# Altium footprint library 钽电容.PcbLib: 6 footprints
Each footprint in its own frame and in the unit in brackets; x right, y up, seen from the top. Pads: shape width x height; smd on the part's side, far side on the other; paste and mask are expansions set on the pad; w line width, h text height; cw(c..) or ccw(c..) is an arc to the next point about the centre after c.
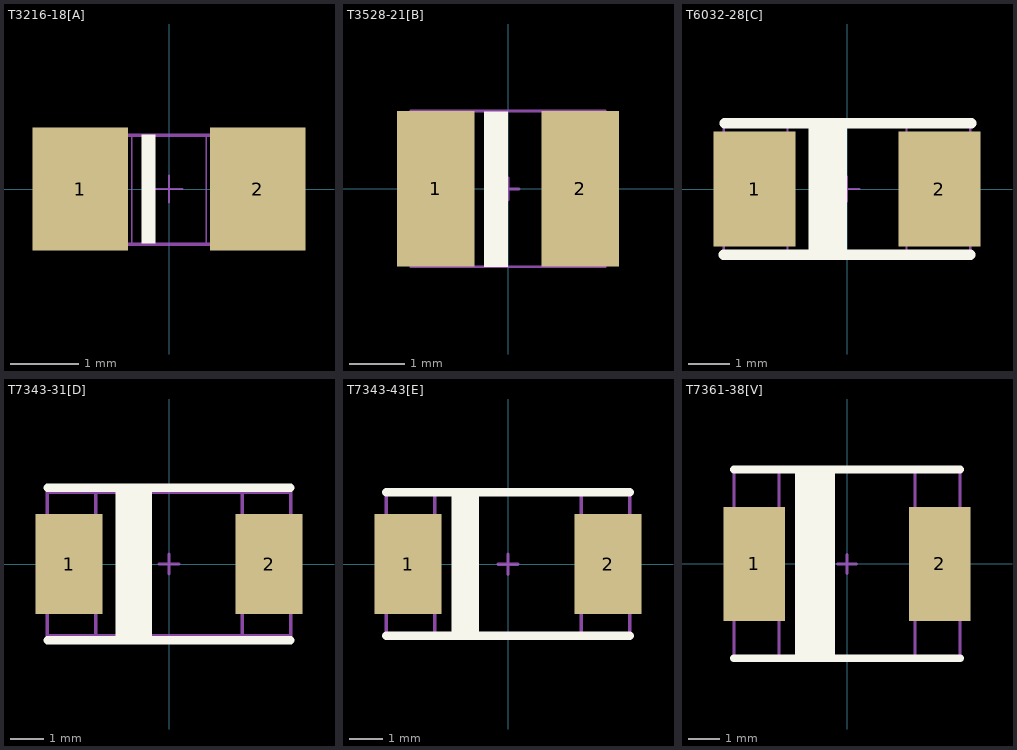
[diagram p0: the footprints below, top view; thin cyan lines are the x and y axes]

## T3216-18[A] [mm] "A 型钽电容封装"
height 1.6
pads (2):
  rect 1.4x1.8 smd: 1(-1.3,0) 2(1.3,0)
Top Overlay:
  rectangle: -0.4,-0.8 -0.2,0.8
Mechanical 13:
  lines w0.05: -1.6,-0.813 1.6,-0.813 1.6,0.787 -1.6,0.787 -1.6,-0.813
Mechanical 15:
  lines w0.025: -0.546,-0.8 -0.546,0.8 ; -0.2,0 0,0 ; 0,-0.2 0,0 ; 0,0.2 0,0 ; 0.2,0 0,0 ; 0.546,-0.8 0.546,0.8 ; -1.6,-0.8 1.6,-0.8 1.6,0.8 -1.6,0.8 -1.6,-0.8
  text "+" at -1.397,-0.508 h1.5
  text "-" at 0.889,-0.381 h1.5
3D body: height 1.62, standoff 0.01, extent -1.6,-0.813 1.6,0.787

## T3528-21[B] [mm] "B 型钽电容封装"
height 1.9
pads (2):
  rect 1.4x2.8 smd: 1(-1.3,0) 2(1.3,0)
Top Overlay:
  rectangle: -0.432,-1.403 0,1.397
Mechanical 13:
  lines w0.05: -1.75,-1.403 1.75,-1.403 1.75,1.397 -1.75,1.397 -1.75,-1.403
Mechanical 15:
  lines w0.051: -0.699,-1.4 -0.699,1.4 ; -0.2,0 0,0 ; 0,-0.2 0,0 ; 0,0.2 0,0 ; 0.2,0 0,0 ; 0.699,-1.397 0.699,1.397 ; -1.75,-1.4 1.75,-1.4 1.75,1.4 -1.75,1.4 -1.75,-1.4
3D body: height 1.9, standoff 0, extent -1.75,-1.403 1.75,1.397

## T6032-28[C] [mm] "C型钽电容"
height 2.6
pads (2):
  rect 2x2.8 smd: 1(-2.25,0) 2(2.25,0)
Top Overlay:
  rectangle: -0.94,-1.6 0,1.6
  lines w0.254: -3,-1.6 3,-1.6 ; -2.977,1.6 3.023,1.6
Mechanical 13:
  lines w0.05: -3,-1.6 3,-1.6 3,1.6 -3,1.6 -3,-1.6
Mechanical 15:
  lines w0.051: -1.448,-1.6 -1.448,1.6 ; -0.3,0 0,0 ; 0,-0.3 0,0 ; 0,0.3 0,0 ; 0.3,0 0,0 ; 1.448,-1.6 1.448,1.6 ; -3,-1.6 3,-1.6 3,1.6 -3,1.6 -3,-1.6
3D body: height 2.65, standoff 0.04, extent -3,-1.6 3,1.6

## T7343-31[D] [mm] "D型钽电容"
height 2.9
pads (2):
  rect 2x3 smd: 1(-3,0) 2(3,0)
Top Overlay:
  rectangle: -1.6,-2.286 -0.508,2.286
  lines w0.254: -3.645,-2.286 3.645,-2.286 ; -3.645,2.286 3.645,2.286
Mechanical 13:
  lines w0.05: -3.65,-2.134 3.65,-2.134 3.65,2.166 -3.65,2.166 -3.65,-2.134
Mechanical 15:
  lines w0.1: -2.197,-2.15 -2.197,2.15 ; -0.3,0 0,0 ; 0,-0.3 0,0 ; 0,0.3 0,0 ; 0.3,0 0,0 ; 2.197,-2.15 2.197,2.15 ; -3.65,-2.15 3.65,-2.15 3.65,2.15 -3.65,2.15 -3.65,-2.15
3D body: height 2.95, standoff 0.05, extent -3.65,-2.134 3.65,2.166

## T7343-43[E] [mm] "E型钽电容"
height 4.1
pads (2):
  rect 2x3 smd: 1(-3,0) 2(3,0)
Top Overlay:
  rectangle: -1.702,-2.15 -0.864,2.15
  lines w0.1: -1.473,-2.15 -1.473,2.15
  lines w0.254: -3.65,-2.15 3.65,-2.15 ; -3.65,2.15 3.65,2.15
Mechanical 13:
  lines w0.05: -3.65,-2.141 -3.65,2.159 3.65,2.159 3.65,-2.141 -3.65,-2.141
Mechanical 15:
  lines w0.1: -2.197,-2.146 -2.197,2.146 ; -0.3,0 0,0 ; 0,-0.3 0,0 ; 0,0.3 0,0 ; 0.3,0 0,0 ; 2.197,-2.146 2.197,2.146 ; -3.65,-2.15 3.65,-2.15 3.65,2.15 -3.65,2.15 -3.65,-2.15
3D body: height 4.15, standoff 0.05, extent -3.65,-2.141 3.65,2.159

## T7361-38[V] [mm] "V型钽电容"
height 3.45
pads (2):
  rect 2x3.7 smd: 1(-3,0) 2(3,0)
Top Overlay:
  rectangle: -1.676,-3.05 -0.381,3.05
  lines w0.254: -3.65,-3.05 3.65,-3.05 ; -3.65,3.05 3.65,3.05
Mechanical 13:
  lines w0.05: -3.65,-3.052 3.65,-3.052 3.65,3.048 -3.65,3.048 -3.65,-3.052
Mechanical 15:
  lines w0.1: -2.197,-3.05 -2.197,3.05 ; -0.3,0 0,0 ; 0,-0.3 0,0 ; 0,0.3 0,0 ; 0.3,0 0,0 ; 2.197,-3.05 2.197,3.05 ; -3.65,-3.05 3.65,-3.05 3.65,3.05 -3.65,3.05 -3.65,-3.05
3D body: height 3.53, standoff 0.07, extent -3.65,-3.052 3.65,3.048